# EAGLE library part ZXCD1000 (library wheat)
CLASS-D MODULATOR, ZETEX ZXCD1000
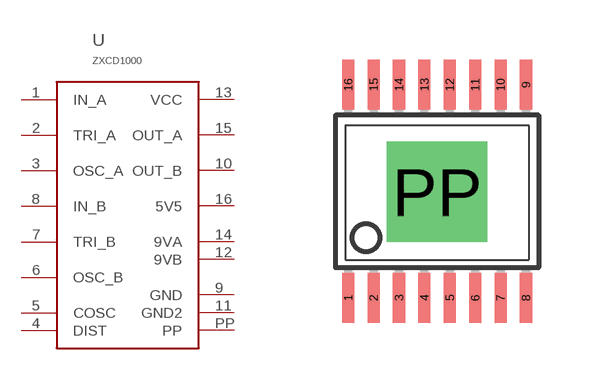
[diagram p47: symbol with the pads of QSOP16_PP; footprint QSOP16_PP]

Designator prefix U

## ZXCD1000  [QSOP16_PP]
1  IN_A
2  TRI_A
3  OSC_A
4  DIST
5  COSC
6  OSC_B
7  TRI_B
8  IN_B
9  GND
10  OUT_B
11  GND2
12  9VB
13  VCC
14  9VA
15  OUT_A
16  5V5
PP  PP

## Footprint QSOP16_PP (pad centres in mm)
QSOP16 with powerpad
smd 0.305 x 1.245: 1 -2.223,-2.654; 2 -1.587,-2.654; 3 -0.953,-2.654; 4 -0.318,-2.654; 5 0.318,-2.654; 6 0.953,-2.654; 7 1.587,-2.654; 8 2.223,-2.654; 9 2.223,2.68; 10 1.587,2.68; 11 0.953,2.68; 12 0.318,2.68; 13 -0.318,2.68; 14 -0.953,2.68; 15 -1.587,2.68; 16 -2.223,2.68
drill 1.676 square: PP 0,0